# EAGLE library part 621008242921 (library Board_to_Board_Connectors_rev15d)
WR-PHD 2.00mm Dual SMT Socket Header, 8 Pins=>Code : Con_BTB_SHD_2.00_2_621008242921 <http://katalog.we-online.de/media/thumbs2/eican/thb_Con_BTB_SHD_2.00_2_6210xx242921_pf2.jpg> Details see: http://katalog.we-online.de/en/em/621_0xx_242_921 Created 2014-06-03, Karrer Zheng 2014 (C) Würth Elektronik
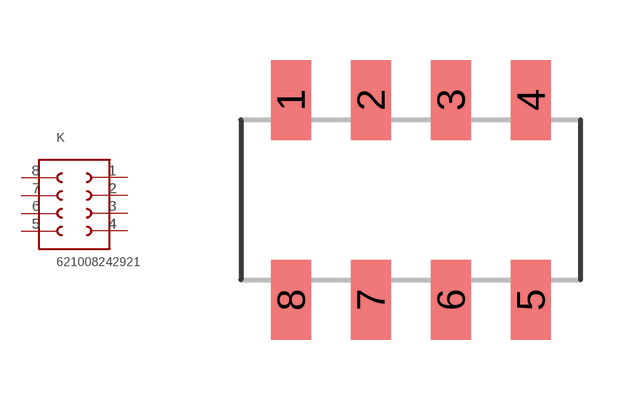
[diagram p267: symbol with the pads of 621008242921; footprint 621008242921]

Designator prefix K

## 621008242921  [621008242921]
1  1  pas
2  2  pas
3  3  pas
4  4  pas
5  5  pas
6  6  pas
7  7  pas
8  8  pas

## Footprint 621008242921 (pad centres in mm)
WR-PHD 2.00mm Dual SMT Socket Header, 8 Pins
smd 1 x 2: 1 -3,2.5; 2 -1,2.5; 3 1,2.5; 4 3,2.5; 5 3,-2.5; 6 1,-2.5; 7 -1,-2.5; 8 -3,-2.5